# Altium schematic symbol library resistor.SchLib: 3 symbols
Pins are listed as number, name and electrical type; pins without a type are passive.

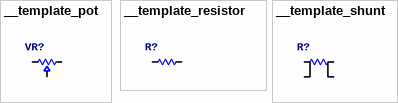
[diagram p0: symbols __template_pot to __template_shunt]

## __template_pot
designator VR?
pins: 1, 2, 3

## __template_resistor
designator R?
pins: 1, 2

## __template_shunt
designator R?
pins: 1, 2, 3, 4